# Altium schematic symbol library Schlib1.SchLib: 2 symbols
Pins are listed as number, name and electrical type; pins without a type are passive.

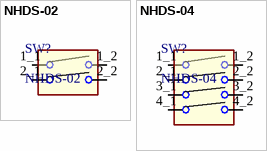
[diagram p0: symbols NHDS-02 to NHDS-04]

## NHDS-02
designator SW?
1.27mm SMT DIP switch 2 positions
footprint NHDS-02 (Footprint not found)
pins: 1_1, 1_2, 2_1, 2_2

## NHDS-04
designator SW?
1.27mm SMT DIP switch 4 positions
footprint NHDS-04 (1.27mm SMT DIP switch)
pins: 1_1, 1_2, 2_1, 2_2, 3_1, 3_2, 4_1, 4_2